# Altium schematic symbol library RES,THERMISTOR.Schlib: 1 symbol
Pins are listed as number, name and electrical type; pins without a type are passive.

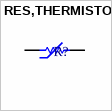
[diagram p0: symbol RES,THERMISTOR]

## RES,THERMISTOR
designator R?
pins: 1, 2